# EAGLE library part HEADER-SIDE-A (library RocketControlBoard)
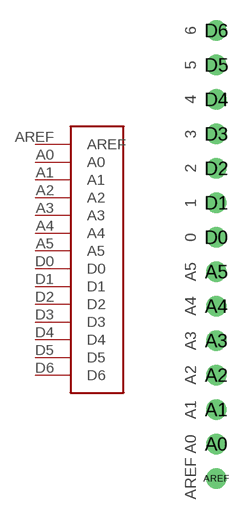
[diagram p3: symbol with the pads of HEADER-SIDE-A; footprint HEADER-SIDE-A]

Designator prefix -

## HEADER-SIDE-A  [HEADER-SIDE-A]
A0  A0
A1  A1
A2  A2
A3  A3
A4  A4
A5  A5
AREF  AREF
D0  D0
D1  D1
D2  D2
D3  D3
D4  D4
D5  D5
D6  D6

## Footprint HEADER-SIDE-A (pad centres in mm)
drill 1: A0 0,-12.7; A1 0,-10.16; A2 0,-7.62; A3 0,-5.08; A4 0,-2.54; A5 0,0; AREF 0,-15.24; D0 0,2.54; D1 0,5.08; D2 0,7.62; D3 0,10.16; D4 0,12.7; D5 0,15.24; D6 0,17.78